# Altium footprint library Pin-Headers 8pin female.PcbLib: 1 footprints
Each footprint in its own frame and in the unit in brackets; x right, y up, seen from the top. Pads: shape width x height; smd on the part's side, far side on the other; paste and mask are expansions set on the pad; w line width, h text height; cw(c..) or ccw(c..) is an arc to the next point about the centre after c.
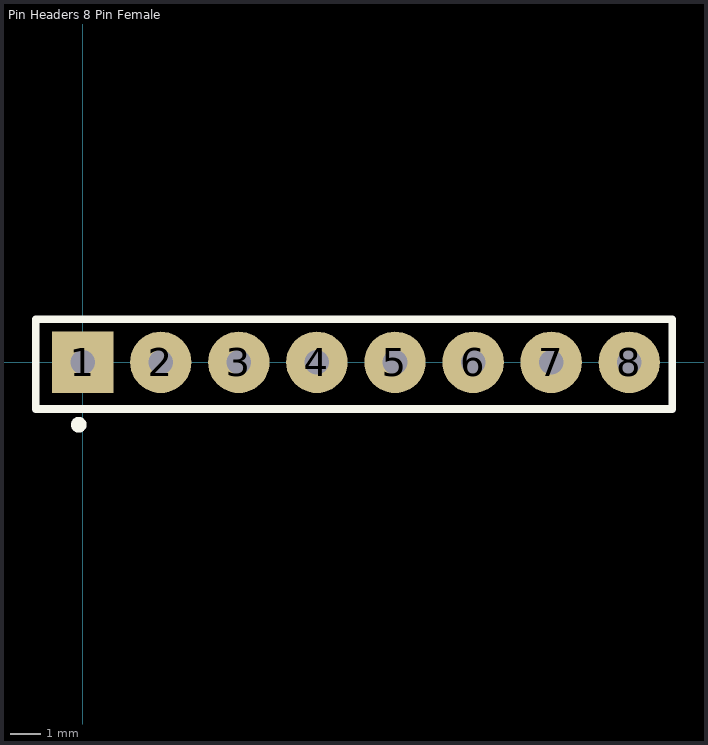
[diagram p0: the footprint, top view; thin cyan lines are the x and y axes]

## Pin Headers 8 Pin Female [mm]
pads (8):
  rect 2x2 hole 0.8: 1(0,0)
  round 2 hole 0.8: 2(2.54,0) 3(5.08,0) 4(7.62,0) 5(10.16,0) 6(12.7,0) 7(15.24,0) 8(17.78,0)
Top Overlay:
  circle w0.254: c-0.127,-2.032 r0.127
  lines w0.254: -1.524,-1.524 19.177,-1.524 19.177,1.397 -1.524,1.397 -1.524,-1.524
3D body "8Fx1-254mm--3DModel-STEP-56544.STEP": height 8.65, standoff -3.4, extent -1.395,-1.25 19.175,1.25